# Altium footprint library CQFP_Sq_80P_Side_M.PcbLib: 2 footprints
Each footprint in its own frame and in the unit in brackets; x right, y up, seen from the top. Pads: shape width x height; smd on the part's side, far side on the other; paste and mask are expansions set on the pad; w line width, h text height; cw(c..) or ccw(c..) is an arc to the next point about the centre after c.
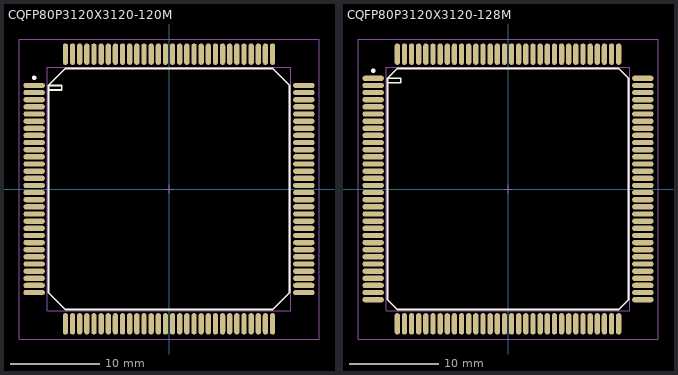
[diagram p0: the footprints below, top view; thin cyan lines are the x and y axes]

## CQFP80P3120X3120-120M [mm] "CQFP, 120-Leads, Body 27.1x27.1mm; Pitch 0.8mm, Gullwing Leadform, IPC Low Density"
height 4.1
pads (120):
  oval 2.4x0.6 smd: 1(-15.1,11.6) 2(-15.1,10.8) 3(-15.1,10) 4(-15.1,9.2) 5(-15.1,8.4) 6(-15.1,7.6) 7(-15.1,6.8) 8(-15.1,6) 9(-15.1,5.2) 10(-15.1,4.4) 11(-15.1,3.6) 12(-15.1,2.8) 13(-15.1,2) 14(-15.1,1.2) 15(-15.1,0.4) 16(-15.1,-0.4) 17(-15.1,-1.2) 18(-15.1,-2) 19(-15.1,-2.8) 20(-15.1,-3.6) 21(-15.1,-4.4) 22(-15.1,-5.2) 23(-15.1,-6) 24(-15.1,-6.8) 25(-15.1,-7.6) 26(-15.1,-8.4) 27(-15.1,-9.2) 28(-15.1,-10) 29(-15.1,-10.8) 30(-15.1,-11.6) 61(15.1,-11.6) 62(15.1,-10.8) 63(15.1,-10) 64(15.1,-9.2) 65(15.1,-8.4) 66(15.1,-7.6) 67(15.1,-6.8) 68(15.1,-6) 69(15.1,-5.2) 70(15.1,-4.4) 71(15.1,-3.6) 72(15.1,-2.8) 73(15.1,-2) 74(15.1,-1.2) 75(15.1,-0.4) 76(15.1,0.4) 77(15.1,1.2) 78(15.1,2) 79(15.1,2.8) 80(15.1,3.6) 81(15.1,4.4) 82(15.1,5.2) 83(15.1,6) 84(15.1,6.8) 85(15.1,7.6) 86(15.1,8.4) 87(15.1,9.2) 88(15.1,10) 89(15.1,10.8) 90(15.1,11.6)
  oval 0.6x2.4 smd: 31(-11.6,-15.1) 32(-10.8,-15.1) 33(-10,-15.1) 34(-9.2,-15.1) 35(-8.4,-15.1) 36(-7.6,-15.1) 37(-6.8,-15.1) 38(-6,-15.1) 39(-5.2,-15.1) 40(-4.4,-15.1) 41(-3.6,-15.1) 42(-2.8,-15.1) 43(-2,-15.1) 44(-1.2,-15.1) 45(-0.4,-15.1) 46(0.4,-15.1) 47(1.2,-15.1) 48(2,-15.1) 49(2.8,-15.1) 50(3.6,-15.1) 51(4.4,-15.1) 52(5.2,-15.1) 53(6,-15.1) 54(6.8,-15.1) 55(7.6,-15.1) 56(8.4,-15.1) 57(9.2,-15.1) 58(10,-15.1) 59(10.8,-15.1) 60(11.6,-15.1) 91(11.6,15.1) 92(10.8,15.1) 93(10,15.1) 94(9.2,15.1) 95(8.4,15.1) 96(7.6,15.1) 97(6.8,15.1) 98(6,15.1) 99(5.2,15.1) 100(4.4,15.1) 101(3.6,15.1) 102(2.8,15.1) 103(2,15.1) 104(1.2,15.1) 105(0.4,15.1) 106(-0.4,15.1) 107(-1.2,15.1) 108(-2,15.1) 109(-2.8,15.1) 110(-3.6,15.1) 111(-4.4,15.1) 112(-5.2,15.1) 113(-6,15.1) 114(-6.8,15.1) 115(-7.6,15.1) 116(-8.4,15.1) 117(-9.2,15.1) 118(-10,15.1) 119(-10.8,15.1) 120(-11.6,15.1)
Top Overlay:
  circle w0.25: c-15.1,12.45 r0.125
  lines w0.2: -13.5,11.1 -12,11.1 -12,11.6 -13.5,11.6 ; -13.5,11.6 -13.5,-11.6 -11.6,-13.5 11.6,-13.5 13.5,-11.6 13.5,11.6 11.6,13.5 -11.6,13.5 -13.5,11.6
Mechanical 13:
  lines w0.1: -13.65,-13.65 -13.65,13.65 13.65,13.65 13.65,-13.65 -13.65,-13.65
Mechanical 15:
  lines w0.1: -0.5,0 0.5,0 ; 0,-0.5 0,0.5 ; -16.8,-16.8 -16.8,16.8 16.8,16.8 16.8,-16.8 -16.8,-16.8
3D body: height 4.1, standoff 0, extent -13.65,-13.65 13.65,13.65

## CQFP80P3120X3120-128M [mm] "CQFP, 128-Leads, Body 27.1x27.1mm; Pitch 0.8mm, Gullwing Leadform, IPC Low Density"
height 4.1
pads (128):
  oval 2.4x0.6 smd: 1(-15.1,12.4) 2(-15.1,11.6) 3(-15.1,10.8) 4(-15.1,10) 5(-15.1,9.2) 6(-15.1,8.4) 7(-15.1,7.6) 8(-15.1,6.8) 9(-15.1,6) 10(-15.1,5.2) 11(-15.1,4.4) 12(-15.1,3.6) 13(-15.1,2.8) 14(-15.1,2) 15(-15.1,1.2) 16(-15.1,0.4) 17(-15.1,-0.4) 18(-15.1,-1.2) 19(-15.1,-2) 20(-15.1,-2.8) 21(-15.1,-3.6) 22(-15.1,-4.4) 23(-15.1,-5.2) 24(-15.1,-6) 25(-15.1,-6.8) 26(-15.1,-7.6) 27(-15.1,-8.4) 28(-15.1,-9.2) 29(-15.1,-10) 30(-15.1,-10.8) 31(-15.1,-11.6) 32(-15.1,-12.4) 65(15.1,-12.4) 66(15.1,-11.6) 67(15.1,-10.8) 68(15.1,-10) 69(15.1,-9.2) 70(15.1,-8.4) 71(15.1,-7.6) 72(15.1,-6.8) 73(15.1,-6) 74(15.1,-5.2) 75(15.1,-4.4) 76(15.1,-3.6) 77(15.1,-2.8) 78(15.1,-2) 79(15.1,-1.2) 80(15.1,-0.4) 81(15.1,0.4) 82(15.1,1.2) 83(15.1,2) 84(15.1,2.8) 85(15.1,3.6) 86(15.1,4.4) 87(15.1,5.2) 88(15.1,6) 89(15.1,6.8) 90(15.1,7.6) 91(15.1,8.4) 92(15.1,9.2) 93(15.1,10) 94(15.1,10.8) 95(15.1,11.6) 96(15.1,12.4)
  oval 0.6x2.4 smd: 33(-12.4,-15.1) 34(-11.6,-15.1) 35(-10.8,-15.1) 36(-10,-15.1) 37(-9.2,-15.1) 38(-8.4,-15.1) 39(-7.6,-15.1) 40(-6.8,-15.1) 41(-6,-15.1) 42(-5.2,-15.1) 43(-4.4,-15.1) 44(-3.6,-15.1) 45(-2.8,-15.1) 46(-2,-15.1) 47(-1.2,-15.1) 48(-0.4,-15.1) 49(0.4,-15.1) 50(1.2,-15.1) 51(2,-15.1) 52(2.8,-15.1) 53(3.6,-15.1) 54(4.4,-15.1) 55(5.2,-15.1) 56(6,-15.1) 57(6.8,-15.1) 58(7.6,-15.1) 59(8.4,-15.1) 60(9.2,-15.1) 61(10,-15.1) 62(10.8,-15.1) 63(11.6,-15.1) 64(12.4,-15.1) 97(12.4,15.1) 98(11.6,15.1) 99(10.8,15.1) 100(10,15.1) 101(9.2,15.1) 102(8.4,15.1) 103(7.6,15.1) 104(6.8,15.1) 105(6,15.1) 106(5.2,15.1) 107(4.4,15.1) 108(3.6,15.1) 109(2.8,15.1) 110(2,15.1) 111(1.2,15.1) 112(0.4,15.1) 113(-0.4,15.1) 114(-1.2,15.1) 115(-2,15.1) 116(-2.8,15.1) 117(-3.6,15.1) 118(-4.4,15.1) 119(-5.2,15.1) 120(-6,15.1) 121(-6.8,15.1) 122(-7.6,15.1) 123(-8.4,15.1) 124(-9.2,15.1) 125(-10,15.1) 126(-10.8,15.1) 127(-11.6,15.1) 128(-12.4,15.1)
Top Overlay:
  circle w0.25: c-15.1,13.25 r0.125
  lines w0.2: -13.5,11.9 -12,11.9 -12,12.4 -13.5,12.4 ; -13.5,12.4 -12.4,13.5 12.4,13.5 13.5,12.4 13.5,-12.4 12.4,-13.5 -12.4,-13.5 -13.5,-12.4 -13.5,12.4
Mechanical 13:
  lines w0.1: -13.65,-13.65 13.65,-13.65 13.65,13.65 -13.65,13.65 -13.65,-13.65
Mechanical 15:
  lines w0.1: -0.5,0 0.5,0 ; 0,-0.5 0,0.5 ; -16.8,-16.8 16.8,-16.8 16.8,16.8 -16.8,16.8 -16.8,-16.8
3D body: height 4.1, standoff 0, extent -13.65,-13.65 13.65,13.65